# Altium schematic symbol library CAN-USB-Converter.SchLib: 6 symbols
Pins are listed as number, name and electrical type; pins without a type are passive.

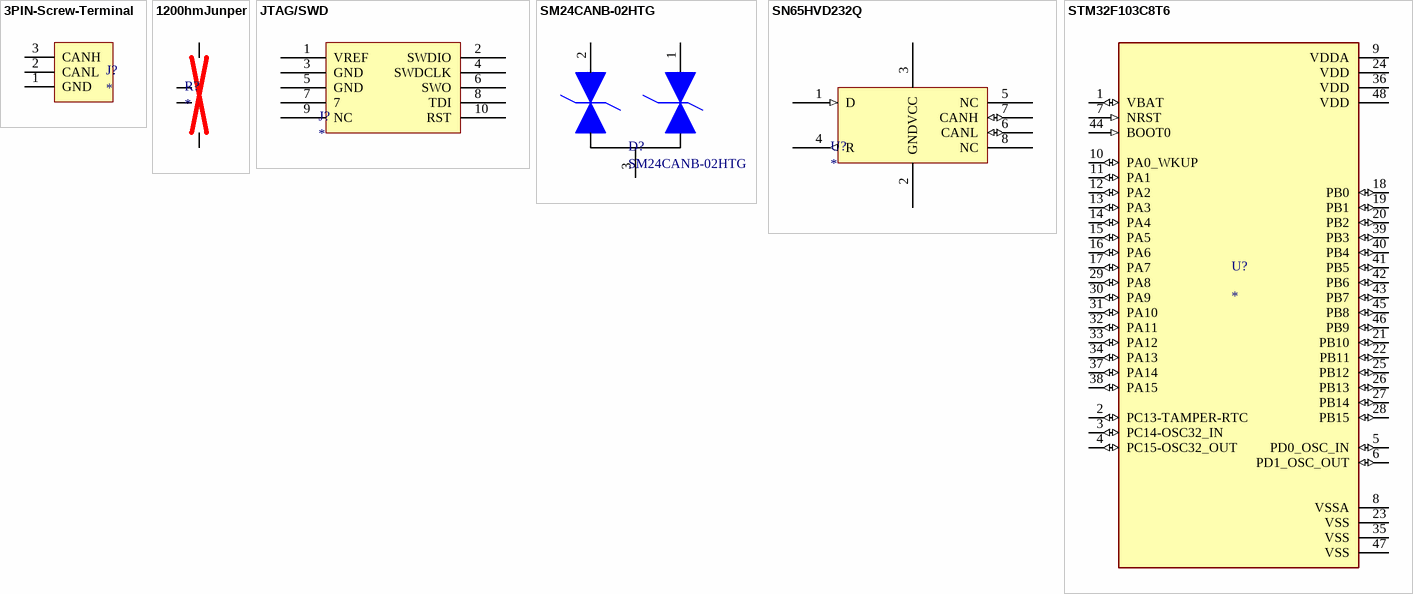
[diagram p0: symbols 3PIN-Screw-Terminal to STM32F103C8T6]

## 3PIN-Screw-Terminal
designator J?
footprint 3PIN-Screw-Terminal (5,00mm - modular - green - Horizontal entry with rising cage clamp -  10,0mm height - 03p)
pins: 1 GND, 2 CANL, 3 CANH

## 1200hmJunper
designator R?
footprint 120ohmJumper
pins: 1, 2 1, 3, 4

## JTAG/SWD
designator J?
footprint 61301021021 (Pin Header, pitch 2.54 mm, THT, Angled, dual row, 10p)
pins: 1 VREF, 2 SWDIO, 3 GND, 4 SWDCLK, 5 GND, 6 SWO, 7, 8 TDI, 9 NC, 10 RST

## SM24CANB-02HTG
designator D?
footprint SOT-23-3
pins: 1, 2, 3

## SN65HVD232Q
designator U?
footprint SO-8_S
pins: 1 D (in), 2 GND, 3 VCC, 4 R (out), 5 NC, 6 CANL (io), 7 CANH (io), 8 NC

## STM32F103C8T6
designator U?
ARMÂ® CortexÂ®-M3 STM32F1 Microcontroller IC 32-Bit 72MHz 64KB _64K x 8_ FLASH; MP: STM32F103C8T6; MF: STMicroelectronics; Price: None; Package: LQFP-48 STMicroelectronics; Value: *; Availability: Unavailable; SnapEDA_Link: https://www.snapeda.com/parts/STM32F103C8T6/STMicroelectronics/view-part/52195/?ref=snap
footprint STM32F103C8T6
pins: 1 VBAT (io), 2 PC13-TAMPER-RTC (io), 3 PC14-OSC32_IN (io), 4 PC15-OSC32_OUT (io), 5 PD0_OSC_IN (io), 6 PD1_OSC_OUT (io), 7 NRST (in), 8 VSSA (power), 9 VDDA (power), 10 PA0_WKUP (io), 11 PA1 (io), 12 PA2 (io), 13 PA3 (io), 14 PA4 (io), 15 PA5 (io), 16 PA6 (io), 17 PA7 (io), 18 PB0 (io), 19 PB1 (io), 20 PB2 (io), 21 PB10 (io), 22 PB11 (io), 23 VSS (power), 24 VDD (power), 25 PB12 (io), 26 PB13 (io), 27 PB14 (io), 28 PB15 (io), 29 PA8 (io), 30 PA9 (io), 31 PA10 (io), 32 PA11 (io), 33 PA12 (io), 34 PA13 (io), 35 VSS (power), 36 VDD (power), 37 PA14 (io), 38 PA15 (io), 39 PB3 (io), 40 PB4 (io), 41 PB5 (io), 42 PB6 (io), 43 PB7 (io), 44 BOOT0 (in), 45 PB8 (io), 46 PB9 (io), 47 VSS (power), 48 VDD (power)